# EAGLE library part INA4180 (library PowerManagementParts)
INA 4180 Current Sense amplifier (TSSOP14 package) https://www.digikey.com/product-detail/en/texas-instruments/INA4180A2IPWR/296-49095-1-ND/9091907
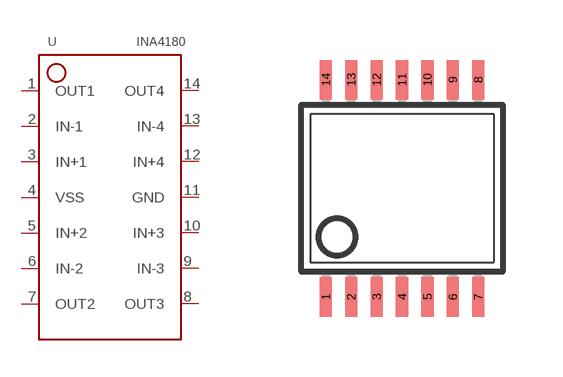
[diagram p4: symbol with the pads of TSSOP14; footprint TSSOP14]

Designator prefix -

## INA4180  [TSSOP14]
1  OUT1
2  IN-1
3  IN+1
4  VSS
5  IN+2
6  IN-2
7  OUT2
8  OUT3
9  IN-3
10  IN+3
11  GND
12  IN+4
13  IN-4
14  OUT4

## Footprint TSSOP14 (pad centres in mm)
Thin Shrink Small Outline Plastic 14
smd 0.305 x 0.991: 1 -1.905,-2.718; 2 -1.27,-2.718; 3 -0.635,-2.718; 4 0,-2.718; 5 0.635,-2.718; 6 1.27,-2.718; 7 1.905,-2.718; 8 1.905,2.718; 9 1.27,2.718; 10 0.635,2.718; 11 0,2.718; 12 -0.635,2.718; 13 -1.27,2.718; 14 -1.905,2.718